# Altium footprint library Clocked LED_PcbLib1.PcbLib: 4 footprints
Each footprint in its own frame and in the unit in brackets; x right, y up, seen from the top. Pads: shape width x height; smd on the part's side, far side on the other; paste and mask are expansions set on the pad; w line width, h text height; cw(c..) or ccw(c..) is an arc to the next point about the centre after c.
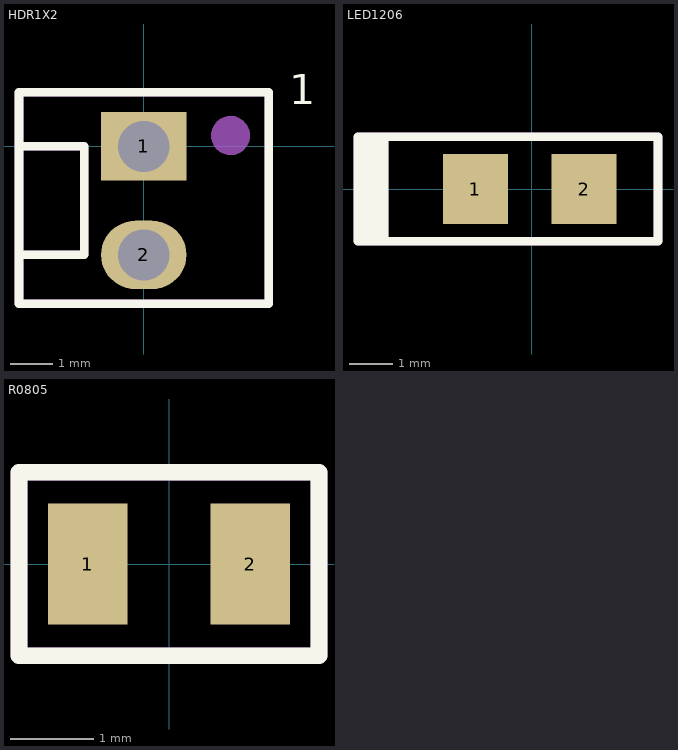
[diagram p0: the footprints below, top view; thin cyan lines are the x and y axes]

## HDR1X2 [mm]
pads (2):
  rect 2x1.6 hole 1.2: 1(0,0)
  oval 2x1.6 hole 1.2: 2(0,-2.54)
Top Overlay:
  lines w0.2: -2.921,-3.683 2.921,-3.683 2.921,1.27 -2.921,1.27 -2.921,-3.683 ; -2.921,-2.54 -1.397,-2.54 -1.397,0 -2.921,0 -2.921,-2.54
  text "1" at 3.402,0.989 h0.7
Top Assembly:
  circle w0.508: c2.032,0.254 r0.203
  lines w0.2: -2.921,-3.683 2.921,-3.683 2.921,1.27 -2.921,1.27 -2.921,-3.683 ; -2.921,-2.54 -1.397,-2.54 -1.397,0 -2.921,0 -2.921,-2.54
  text ".Designator" at -3.583,-1.445 h0.7
  text "1" at 3.402,0.989 h0.7
3D body "22-29-2021.stp": height 11.71, standoff -3.55, extent -2.879,-3.81 2.921,1.27

## LED1206 [mm]
pads (2):
  rect 1.5x1.6 smd: 1(-1.3,0) 2(1.2,0)
Top Overlay:
  rectangle: -4,-1.2 -3.3,1.2
  lines w0.2: -4,-1.2 2.9,-1.2 2.9,1.2 -4,1.2 -4,-1.2
Top Assembly:
  rectangle: -4,-1.2 -3.3,1.2
  lines w0.2: -4,-1.2 2.9,-1.2 2.9,1.2 -4,1.2 -4,-1.2
  text ".Designator" at -3.499,0.333 h0.7
3D body "LED_150060B_WRE.step": height 0.51, standoff 0, extent -0.851,-0.444 0.851,0.444

## PCBComponent_1 [mm]

## R0805 [mm]
pads (2):
  rect 0.95x1.45 smd: 1(-0.975,0) 2(0.975,0)
Top Overlay:
  lines w0.2: -1.8,-1.1 -1.8,1.1 1.8,1.1 1.8,-1.1 -1.8,-1.1
Top Assembly:
  lines w0.2: -1.8,-1.1 -1.8,1.1 1.8,1.1 1.8,-1.1 -1.8,-1.1
  text ".Designator" at -3.499,-0.267 h0.7
3D body "CRCW0805360RFKEA.STEP": height 0.51, standoff 0.01, extent -1,-0.6 1,0.65